# EAGLE library part 7461097 (library 7461097)
Wurth Elektronik REDCUBE 16 Pin Power Element, 240A, Press Fit, M6, Vertical Source: Datasheet <https://componentsearchengine.com/Datasheets/1/7461097.pdf>
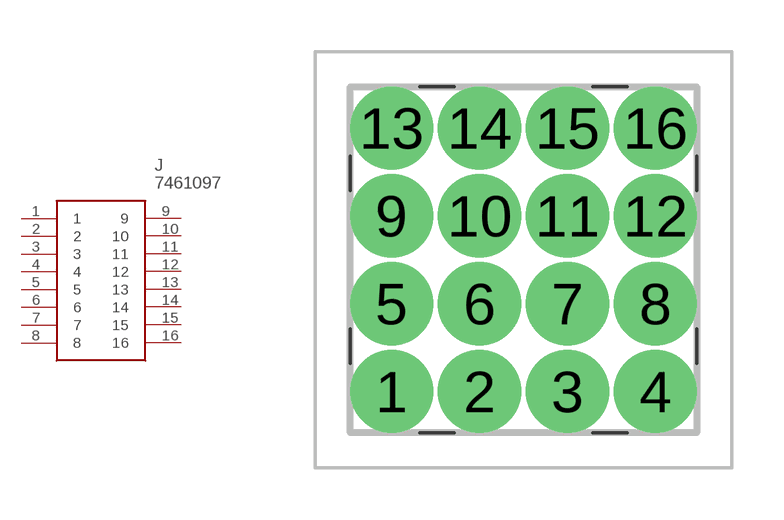
[diagram p0: symbol with the pads of 7461097; footprint 7461097]

Designator prefix J

## 7461097 (Description: Wurth Elektronik REDCUBE 16 Pin Power Element, 240A, Press Fit, M6, Vertical; Height: 10.5mm; Manufacturer_Name: Wurth Elektronik; Manufacturer_Part_Number: 7461097; Mouser_Part_Number: 710-7461097; Mouser_Price-Stock: https://www.mouser.co.uk/ProductDetail/Wurth-Elektronik/7461097?qs=lykWx4dhCCFiGYmaGz0l0w%3D%3D)  [7461097]
1  1
2  2
3  3
4  4
5  5
6  6
7  7
8  8
9  9
10  10
11  11
12  12
13  13
14  14
15  15
16  16

## Footprint 7461097 (pad centres in mm)
7461097-1
drill 1.6 pad 2.4: 1 -3.81,-3.81; 2 -1.27,-3.81; 3 1.27,-3.81; 4 3.81,-3.81; 5 -3.81,-1.27; 6 -1.27,-1.27; 7 1.27,-1.27; 8 3.81,-1.27; 9 -3.81,1.27; 10 -1.27,1.27; 11 1.27,1.27; 12 3.81,1.27; 13 -3.81,3.81; 14 -1.27,3.81; 15 1.27,3.81; 16 3.81,3.81